# EAGLE library part CRD89C51RD (library micro-cyrod)
CRD89C51RD series 8 - bit single chip micro controller unit (MCU) with 64KB flash & 1K byte RAM embedded. Auto generated by make-symbol-device-package-bsdl.ulp Rev. 35 Source: CRD89C51RD_v001.pdf
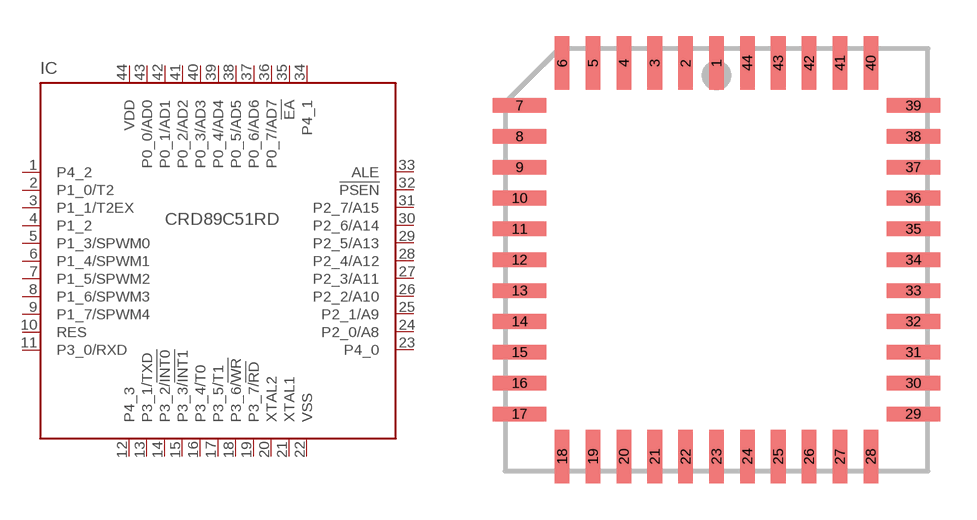
[diagram p1: symbol with the pads of PLCC44; footprint PLCC44]

Designator prefix IC

## CRD89C51RD (OC_FARNELL: unknown; OC_NEWARK: unknown)  [PLCC44]
1  P4_2
2  P1_0/T2
3  P1_1/T2EX
4  P1_2
5  P1_3/SPWM0
6  P1_4/SPWM1
7  P1_5/SPWM2
8  P1_6/SPWM3
9  P1_7/SPWM4
10  RES  in
11  P3_0/RXD
12  P4_3
13  P3_1/TXD
14  P3_2/!INT0
15  P3_3/!INT1
16  P3_4/T0
17  P3_5/T1
18  P3_6/!WR
19  P3_7/!RD
20  XTAL2  out
21  XTAL1  in
22  VSS  pwr
23  P4_0
24  P2_0/A8
25  P2_1/A9
26  P2_2/A10
27  P2_3/A11
28  P2_4/A12
29  P2_5/A13
30  P2_6/A14
31  P2_7/A15
32  !PSEN  out
33  ALE  out
34  P4_1
35  !EA  in
36  P0_7/AD7
37  P0_6/AD6
38  P0_5/AD5
39  P0_4/AD4
40  P0_3/AD3
41  P0_2/AD2
42  P0_1/AD1
43  P0_0/AD0
44  VDD  pwr

## Footprint PLCC44 (pad centres in mm)
PLASTIC LEADED CHIP CARRIER square
smd 0.6 x 2.2: 1 0,8.1; 2 -1.27,8.1; 3 -2.54,8.1; 4 -3.81,8.1; 5 -5.08,8.1; 6 -6.35,8.1; 18 -6.35,-8.1; 19 -5.08,-8.1; 20 -3.81,-8.1; 21 -2.54,-8.1; 22 -1.27,-8.1; 23 0,-8.1; 24 1.27,-8.1; 25 2.54,-8.1; 26 3.81,-8.1; 27 5.08,-8.1; 28 6.35,-8.1; 40 6.35,8.1; 41 5.08,8.1; 42 3.81,8.1; 43 2.54,8.1; 44 1.27,8.1
smd 2.2 x 0.6: 7 -8.1,6.35; 8 -8.1,5.08; 9 -8.1,3.81; 10 -8.1,2.54; 11 -8.1,1.27; 12 -8.1,0; 13 -8.1,-1.27; 14 -8.1,-2.54; 15 -8.1,-3.81; 16 -8.1,-5.08; 17 -8.1,-6.35; 29 8.1,-6.35; 30 8.1,-5.08; 31 8.1,-3.81; 32 8.1,-2.54; 33 8.1,-1.27; 34 8.1,0; 35 8.1,1.27; 36 8.1,2.54; 37 8.1,3.81; 38 8.1,5.08; 39 8.1,6.35